# EAGLE library part VIPER012HS (library st_viper)
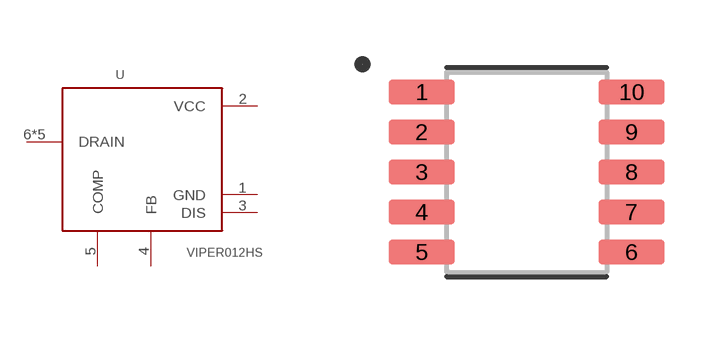
[diagram p0: symbol with the pads of SOIC100P600X175-10N; footprint SOIC100P600X175-10N]

Designator prefix U

## VIPER012HS (OC_TME: VIPER012HS)  [SOIC100P600X175-10N]
1  GND  pas
2  VCC  pas
3  DIS  pas
4  FB  pas
5  COMP  pas
6  DRAIN  pas
7  DRAIN  pas
8  DRAIN  pas
9  DRAIN  pas
10  DRAIN  pas

## Footprint SOIC100P600X175-10N (pad centres in mm)
smd 1.66 x 0.6: 1 -2.625,2; 2 -2.625,1; 3 -2.625,0; 4 -2.625,-1; 5 -2.625,-2; 6 2.625,-2; 7 2.625,-1; 8 2.625,0; 9 2.625,1; 10 2.625,2